# EAGLE library part DMP3056 (library Circuitos-Creativos-Transistores)
MOSFET dual canal-P,-30V -5.1A, 2.5W - 25ºC
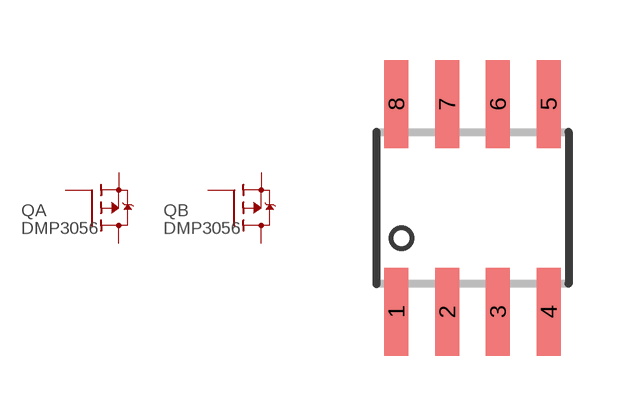
[diagram p1: symbol with the pads of SO-08; footprint SO-08]

Designator prefix Q; gates A=MOSFET-P B=MOSFET-P

## DMP3056  [SO-08]
1  A:S  pas
2  A:G  pas
3  B:S  pas
4  B:G  pas
5  B:D  pas
6  B:D  pas
7  A:D  pas
8  A:D  pas

## Footprint SO-08 (pad centres in mm)
smd 0.6 x 2.2: 1 -1.905,-2.6; 2 -0.635,-2.6; 3 0.635,-2.6; 4 1.905,-2.6; 5 1.905,2.6; 6 0.635,2.6; 7 -0.635,2.6; 8 -1.905,2.6